# Altium schematic symbol library RES,1m,1%,5W,2512.Schlib: 1 symbol
Pins are listed as number, name and electrical type; pins without a type are passive.

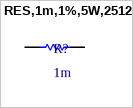
[diagram p0: symbol RES,1m,1%,5W,2512]

## RES,1m,1%,5W,2512
designator R?, comment 1m
RES 0.001 OHM 1% 5W 2512
pins: 1, 2